# EAGLE library part M68HC11E9 (library Digilent)
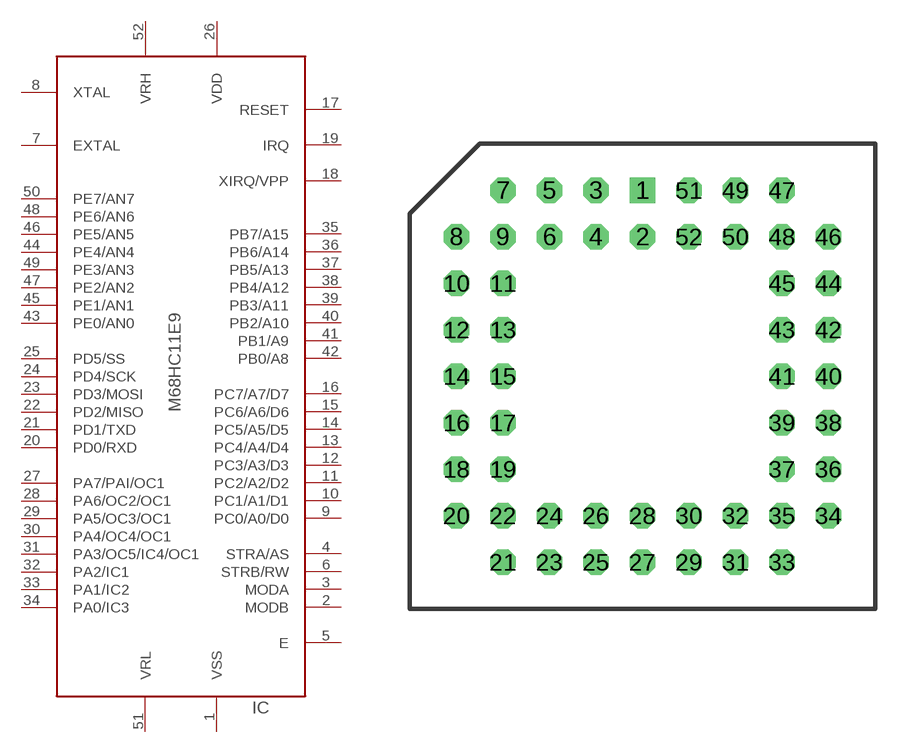
[diagram p14: symbol with the pads of PLCC-52T; footprint PLCC-52T]

Designator prefix IC

## M68HC11E9FN  [PLCC-52T]
1  VSS  pwr
2  MODB
3  MODA
4  STRA/AS
5  E
6  STRB/RW
7  EXTAL
8  XTAL
9  PC0/A0/D0
10  PC1/A1/D1
11  PC2/A2/D2
12  PC3/A3/D3
13  PC4/A4/D4
14  PC5/A5/D5
15  PC6/A6/D6
16  PC7/A7/D7
17  RESET
18  XIRQ/VPP
19  IRQ
20  PD0/RXD
21  PD1/TXD
22  PD2/MISO
23  PD3/MOSI
24  PD4/SCK
25  PD5/SS
26  VDD  pwr
27  PA7/PAI/OC1
28  PA6/OC2/OC1
29  PA5/OC3/OC1
30  PA4/OC4/OC1
31  PA3/OC5/IC4/OC1
32  PA2/IC1
33  PA1/IC2
34  PA0/IC3
35  PB7/A15
36  PB6/A14
37  PB5/A13
38  PB4/A12
39  PB3/A11
40  PB2/A10
41  PB1/A9
42  PB0/A8
43  PE0/AN0
44  PE4/AN4
45  PE1/AN1
46  PE5/AN5
47  PE2/AN2
48  PE6/AN6
49  PE3/AN3
50  PE7/AN7
51  VRL  in
52  VRH  in

## Footprint PLCC-52T (pad centres in mm)
drill 0.889 square: 1 0,10.16
drill 0.889 octagon: 2 0,7.62; 3 -2.54,10.16; 4 -2.54,7.62; 5 -5.08,10.16; 6 -5.08,7.62; 7 -7.62,10.16; 8 -10.16,7.62; 9 -7.62,7.62; 10 -10.16,5.08; 11 -7.62,5.08; 12 -10.16,2.54; 13 -7.62,2.54; 14 -10.16,0; 15 -7.62,0; 16 -10.16,-2.54; 17 -7.62,-2.54; 18 -10.16,-5.08; 19 -7.62,-5.08; 20 -10.16,-7.62; 21 -7.62,-10.16; 22 -7.62,-7.62; 23 -5.08,-10.16; 24 -5.08,-7.62; 25 -2.54,-10.16; 26 -2.54,-7.62; 27 0,-10.16; 28 0,-7.62; 29 2.54,-10.16; 30 2.54,-7.62; 31 5.08,-10.16; 32 5.08,-7.62; 33 7.62,-10.16; 34 10.16,-7.62; 35 7.62,-7.62; 36 10.16,-5.08; 37 7.62,-5.08; 38 10.16,-2.54; 39 7.62,-2.54; 40 10.16,0; 41 7.62,0; 42 10.16,2.54; 43 7.62,2.54; 44 10.16,5.08; 45 7.62,5.08; 46 10.16,7.62; 47 7.62,10.16; 48 7.62,7.62; 49 5.08,10.16; 50 5.08,7.62; 51 2.54,10.16; 52 2.54,7.62